# Altium schematic symbol library LTC-4727JR.SchLib: 1 symbol
Pins are listed as number, name and electrical type; pins without a type are passive.

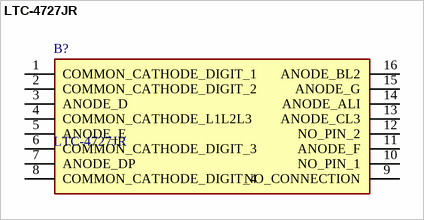
[diagram p0: symbol LTC-4727JR]

## LTC-4727JR
designator B?
Displays Panel 4DIGIT 35LED Sup. Red CC 14-Pin DIP Module; Manufacturer_Name: Lite-On; Geometry.Height: 7.25mm; Manufacturer_Part_Number: LTC-4727JR; Mouser Part Number: 859-LTC-4727JR; Mouser Price/Stock: https://www.mouser.co.uk/ProductDetail/Lite-On/LTC-4727JR?qs=WxFF5lh7QM1aHvF1YvDORQ%3D%3D; Arrow Part Number: LTC-4727JR; Arrow Price/Stock: https://www.arrow.com/en/products/ltc-4727jr/lite-on-technology?region=nac; Datasheet Link: https://componentsearchengine.com/Datasheets/1/LTC-4727JR.pdf
footprint DIP1016W75P254L4018H725Q16N
pins: 1 COMMON_CATHODE_DIGIT_1, 2 COMMON_CATHODE_DIGIT_2, 3 ANODE_D, 4 COMMON_CATHODE_L1L2L3, 5 ANODE_E, 6 COMMON_CATHODE_DIGIT_3, 7 ANODE_DP, 8 COMMON_CATHODE_DIGIT_4, 9 NO_CONNECTION, 10 NO_PIN_1, 11 ANODE_F, 12 NO_PIN_2, 13 ANODE_CL3, 14 ANODE_ALI, 15 ANODE_G, 16 ANODE_BL2